# EAGLE library part MAX14595ETA+ (library PCB_Components)
Translation - Voltage Levels High-Speed Open Drain LLT Source: Datasheet <https://www.mouser.it/datasheet/2/256/MAX14595-471922.pdf>
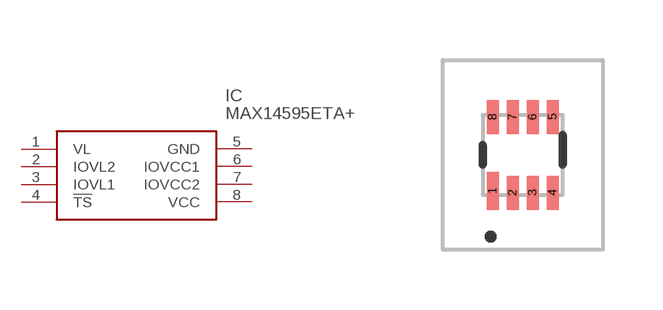
[diagram p7: symbol with the pads of MAX14595ETA; footprint MAX14595ETA]

Designator prefix IC

## MAX14595ETA+ (DESCRIPTION: Translation - Voltage Levels High-Speed Open Drain LLT; HEIGHT: 0.8mm; MANUFACTURER_NAME: Maxim Integrated; MANUFACTURER_PART_NUMBER: MAX14595ETA+; MOUSER_PART_NUMBER: 700-MAX14595ETA+; MOUSER_PRICE-STOCK: https://www.mouser.co.uk/ProductDetail/Maxim-Integrated/MAX14595ETA%2b?qs=Or6ezLSzmEvDejm1TC8ZVA%3D%3D)  [MAX14595ETA]
1  VL
2  IOVL2
3  IOVL1
4  !TS
5  GND
6  IOVCC1
7  IOVCC2
8  VCC

## Footprint MAX14595ETA (pad centres in mm)
MAX14595ETA+-2
smd 0.3 x 0.95: 1 -0.75,-0.9
smd 0.3 x 0.85: 2 -0.25,-0.95; 3 0.25,-0.95; 4 0.75,-0.95; 5 0.75,0.95; 6 0.25,0.95; 7 -0.25,0.95; 8 -0.75,0.95